# EAGLE library part ATA6560 (library IC)
CAN TRX (silent mode)
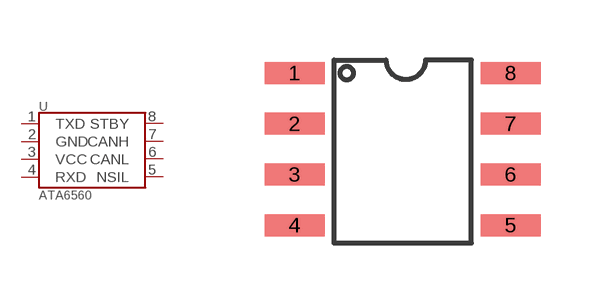
[diagram p7: symbol with the pads of SOIC-3.9MM-8; footprint SOIC-3.9MM-8]

Designator prefix U

## ATA6560 (MPN: ATA6560-GAQW-N)  [SOIC-3.9MM-8]
1  TXD
2  GND
3  VCC
4  RXD
5  NSIL
6  CANL
7  CANH
8  STBY

## Footprint SOIC-3.9MM-8 (pad centres in mm)
smd 1.5 x 0.55: 1 -2.699,2.064; 2 -2.699,0.794; 3 -2.699,-0.476; 4 -2.699,-1.746; 5 2.701,-1.746; 6 2.701,-0.476; 7 2.701,0.794; 8 2.701,2.064